# Altium schematic symbol library ButtonPTS636SM43SMTRLFS.SchLib: 1 symbol
Pins are listed as number, name and electrical type; pins without a type are passive.

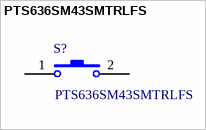
[diagram p0: symbol PTS636SM43SMTRLFS]

## PTS636SM43SMTRLFS
designator S?
PTS636 Series SPST-NO Off-Mom 180 gf Top Actuated Gull Wing SMT Tactile Switch; Manufacturer_Name: LITTELFUSE; Geometry.Height: 4.5mm; Manufacturer_Part_Number: PTS636SM43SMTRLFS; Mouser Part Number: *; Mouser Price/Stock: *; Arrow Part Number: PTS636SM43SMTRLFS; Arrow Price/Stock: https://www.arrow.com/en/products/pts636-sm43-smtr-lfs/ck?region=nac; Datasheet Link: https://www.ckswitches.com/media/2779/pts636.pdf
footprint PTS636SM43SMTRLFS
pins: 1, 2